# EAGLE library part TMC2209-LA (library custom)
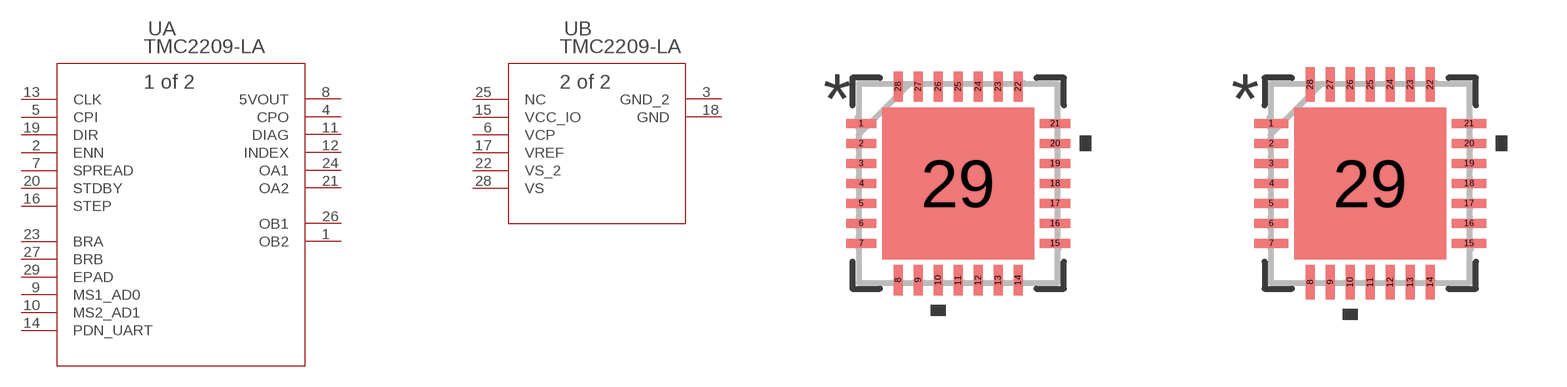
[diagram p3: symbol with the pads of QFN28_5X5_3X8_EPAD; footprints QFN28_5X5_3X8_EPAD, QFN28_5X5_3X8_EPAD-M]

Designator prefix U; gates A=TMC2209-LA B=TMC2209-LA_A

## TMC2209-LA (COPYRIGHT: Copyright (C) 2018 Accelerated Designs. All rights reserved; MANUFACTURER_PART_NUMBER: TMC2209-LA; VENDOR: Trinamic)  [QFN28_5X5_3X8_EPAD]
1  A:OB2  out
2  A:ENN  in
3  B:GND_2  pwr
4  A:CPO  out
5  A:CPI  in
6  B:VCP  pwr
7  A:SPREAD  in
8  A:5VOUT  out
9  A:MS1_AD0  in
10  A:MS2_AD1  in
11  A:DIAG  out
12  A:INDEX  out
13  A:CLK  in
14  A:PDN_UART
15  B:VCC_IO  pwr
16  A:STEP  in
17  B:VREF  in
18  B:GND  pwr
19  A:DIR  in
20  A:STDBY  in
21  A:OA2  out
22  B:VS_2  pwr
23  A:BRA  pas
24  A:OA1  out
25  B:NC  nc
26  A:OB1  out
27  A:BRB  pas
28  B:VS  pwr
29  A:EPAD  pas

## TMC2209-LAQFN28_5X5_3X8_EPAD-M (COPYRIGHT: Copyright (C) 2018 Accelerated Designs. All rights reserved; MANUFACTURER_PART_NUMBER: TMC2209-LA; VENDOR: Trinamic)  [QFN28_5X5_3X8_EPAD-M]
Pads as for QFN28_5X5_3X8_EPAD

## TMC2209-LAQFN28_5X5_3X8_EPAD-L (COPYRIGHT: Copyright (C) 2018 Accelerated Designs. All rights reserved; MANUFACTURER_PART_NUMBER: TMC2209-LA; VENDOR: Trinamic)  [QFN28_5X5_3X8_EPAD-L]
Pads as for QFN28_5X5_3X8_EPAD

## Footprint QFN28_5X5_3X8_EPAD (pad centres in mm)
smd 0.757 x 0.225: 1 -2.423,1.5; 2 -2.423,1; 3 -2.423,0.5; 4 -2.423,0; 5 -2.423,-0.5; 6 -2.423,-1; 7 -2.423,-1.5; 15 2.423,-1.5; 16 2.423,-1; 17 2.423,-0.5; 18 2.423,0; 19 2.423,0.5; 20 2.423,1; 21 2.423,1.5
smd 0.225 x 0.757: 8 -1.5,-2.423; 9 -1,-2.423; 10 -0.5,-2.423; 11 0,-2.423; 12 0.5,-2.423; 13 1,-2.423; 14 1.5,-2.423; 22 1.5,2.423; 23 1,2.423; 24 0.5,2.423; 25 0,2.423; 26 -0.5,2.423; 27 -1,2.423; 28 -1.5,2.423
smd 3.8 x 3.8: 29 0,0

## Footprint QFN28_5X5_3X8_EPAD-M (pad centres in mm)
smd 0.857 x 0.225: 1 -2.473,1.5; 2 -2.473,1; 3 -2.473,0.5; 4 -2.473,0; 5 -2.473,-0.5; 6 -2.473,-1; 7 -2.473,-1.5; 15 2.473,-1.5; 16 2.473,-1; 17 2.473,-0.5; 18 2.473,0; 19 2.473,0.5; 20 2.473,1; 21 2.473,1.5
smd 0.225 x 0.857: 8 -1.5,-2.473; 9 -1,-2.473; 10 -0.5,-2.473; 11 0,-2.473; 12 0.5,-2.473; 13 1,-2.473; 14 1.5,-2.473; 22 1.5,2.473; 23 1,2.473; 24 0.5,2.473; 25 0,2.473; 26 -0.5,2.473; 27 -1,2.473; 28 -1.5,2.473
smd 3.8 x 3.8: 29 0,0

## Footprint QFN28_5X5_3X8_EPAD-L (pad centres in mm)
smd 0.657 x 0.225: 1 -2.373,1.5; 2 -2.373,1; 3 -2.373,0.5; 4 -2.373,0; 5 -2.373,-0.5; 6 -2.373,-1; 7 -2.373,-1.5; 15 2.373,-1.5; 16 2.373,-1; 17 2.373,-0.5; 18 2.373,0; 19 2.373,0.5; 20 2.373,1; 21 2.373,1.5
smd 0.225 x 0.657: 8 -1.5,-2.373; 9 -1,-2.373; 10 -0.5,-2.373; 11 0,-2.373; 12 0.5,-2.373; 13 1,-2.373; 14 1.5,-2.373; 22 1.5,2.373; 23 1,2.373; 24 0.5,2.373; 25 0,2.373; 26 -0.5,2.373; 27 -1,2.373; 28 -1.5,2.373
smd 3.8 x 3.8: 29 0,0